# EAGLE library part PIC24FJ64GA002 (library microchip-dspic)
16bit 28pin PIC24FJ Family I/O pin programmable
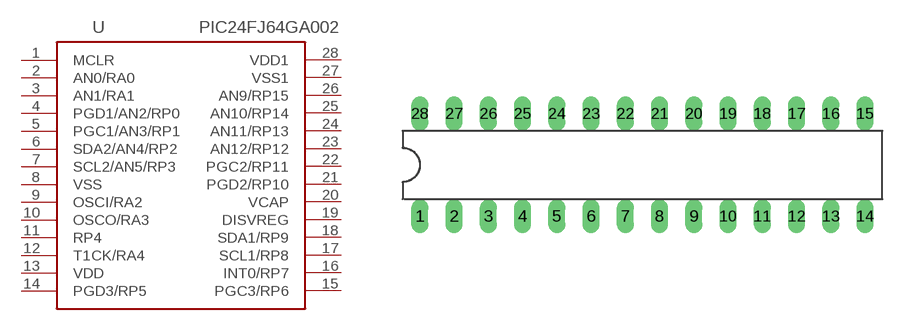
[diagram p24: symbol with the pads of DIL28-3; footprint DIL28-3]

Designator prefix U

## PIC24FJ64GA002  [DIL28-3]
1  MCLR
2  AN0/RA0
3  AN1/RA1
4  PGD1/AN2/RP0
5  PGC1/AN3/RP1
6  SDA2/AN4/RP2
7  SCL2/AN5/RP3
8  VSS
9  OSCI/RA2
10  OSCO/RA3
11  RP4
12  T1CK/RA4
13  VDD
14  PGD3/RP5
15  PGC3/RP6
16  INT0/RP7
17  SCL1/RP8
18  SDA1/RP9
19  DISVREG
20  VCAP
21  PGD2/RP10
22  PGC2/RP11
23  AN12/RP12
24  AN11/RP13
25  AN10/RP14
26  AN9/RP15
27  VSS1
28  VDD1

## Footprint DIL28-3 (pad centres in mm)
Dual In Line package type P
drill 0.5 pad 1.27 long: 1 -16.51,-3.81; 2 -13.97,-3.81; 3 -11.43,-3.81; 4 -8.89,-3.81; 5 -6.35,-3.81; 6 -3.81,-3.81; 7 -1.27,-3.81; 8 1.27,-3.81; 9 3.81,-3.81; 10 6.35,-3.81; 11 8.89,-3.81; 12 11.43,-3.81; 13 13.97,-3.81; 14 16.51,-3.81; 15 16.51,3.81; 16 13.97,3.81; 17 11.43,3.81; 18 8.89,3.81; 19 6.35,3.81; 20 3.81,3.81; 21 1.27,3.81; 22 -1.27,3.81; 23 -3.81,3.81; 24 -6.35,3.81; 25 -8.89,3.81; 26 -11.43,3.81; 27 -13.97,3.81; 28 -16.51,3.81